# EAGLE library part VNC2-64L1B (library FTDI_By_element14_Batch_1)
Vinculum-II Embedded Dual USB Host Controller IC
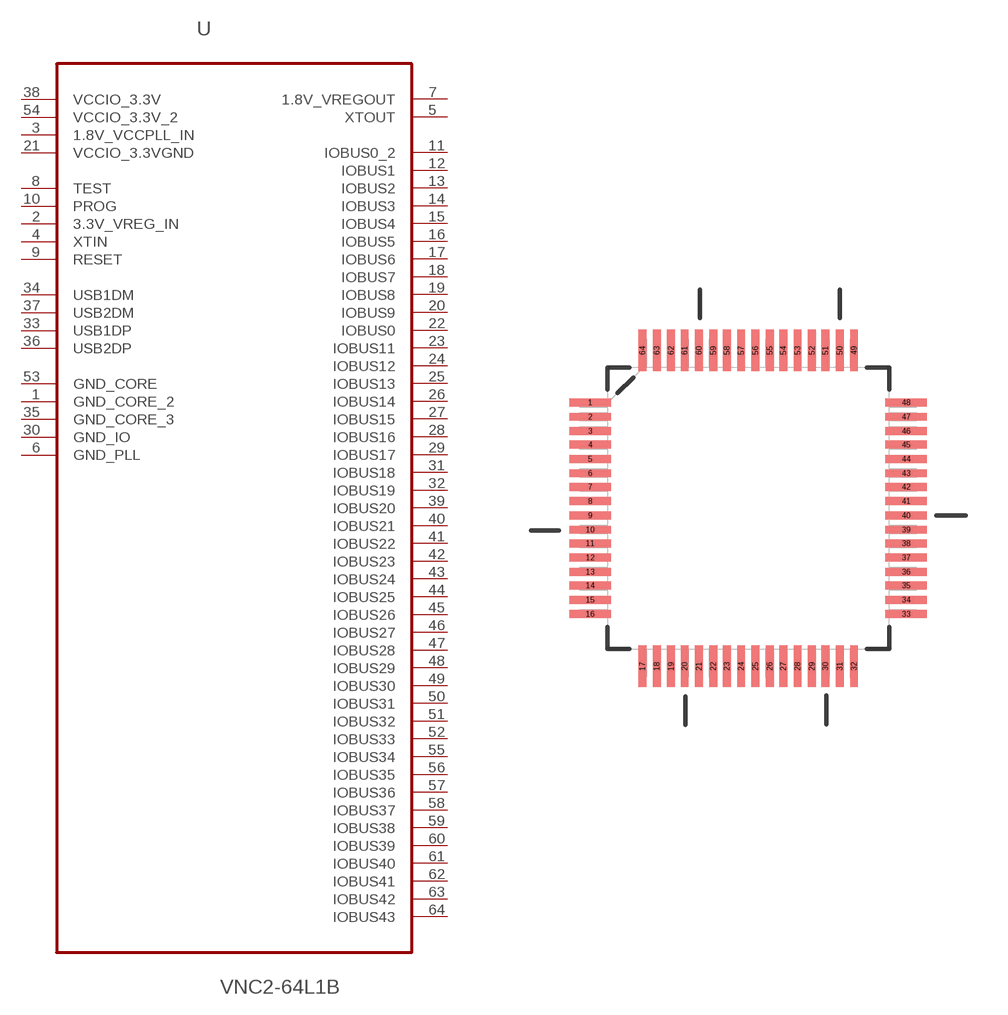
[diagram p4: symbol with the pads of QFP50P1200X1200X160-64N; footprint QFP50P1200X1200X160-64N]

Designator prefix U

## VNC2-64L1B (MPN: VNC2-64L1B; OC_FARNELL: 1863858; OC_NEWARK: 27T5922; PACKAGE: LQFP-64; SUPPLIER: FTDI)  [QFP50P1200X1200X160-64N]
1  GND_CORE_2  pas
2  3.3V_VREG_IN  in
3  1.8V_VCCPLL_IN  pwr
4  XTIN  pwr
5  XTOUT  out
6  GND_PLL  out
7  1.8V_VREGOUT  out
8  TEST  in
9  RESET  in
10  PROG  in
11  IOBUS0_2
12  IOBUS1
13  IOBUS2
14  IOBUS3
15  IOBUS4
16  IOBUS5
17  IOBUS6
18  IOBUS7
19  IOBUS8
20  IOBUS9
21  VCCIO_3.3VGND  pwr
22  IOBUS0
23  IOBUS11
24  IOBUS12
25  IOBUS13
26  IOBUS14
27  IOBUS15
28  IOBUS16
29  IOBUS17
30  GND_IO  pas
31  IOBUS18
32  IOBUS19
33  USB1DP
34  USB1DM
35  GND_CORE_3  out
36  USB2DP
37  USB2DM
38  VCCIO_3.3V  pwr
39  IOBUS20
40  IOBUS21
41  IOBUS22
42  IOBUS23
43  IOBUS24
44  IOBUS25
45  IOBUS26
46  IOBUS27
47  IOBUS28
48  IOBUS29
49  IOBUS30
50  IOBUS31
51  IOBUS32
52  IOBUS33
53  GND_CORE  pas
54  VCCIO_3.3V_2  pwr
55  IOBUS34
56  IOBUS35
57  IOBUS36
58  IOBUS37
59  IOBUS38
60  IOBUS39
61  IOBUS40
62  IOBUS41
63  IOBUS42
64  IOBUS43

## Footprint QFP50P1200X1200X160-64N (pad centres in mm)
smd 1.473 x 0.279: 1 -5.613,3.759; 2 -5.613,3.251; 3 -5.613,2.743; 4 -5.613,2.261; 5 -5.613,1.753; 6 -5.613,1.245; 7 -5.613,0.762; 8 -5.613,0.254; 9 -5.613,-0.254; 10 -5.613,-0.762; 11 -5.613,-1.245; 12 -5.613,-1.753; 13 -5.613,-2.261; 14 -5.613,-2.743; 15 -5.613,-3.251; 16 -5.613,-3.759; 33 5.613,-3.759; 34 5.613,-3.251; 35 5.613,-2.743; 36 5.613,-2.261; 37 5.613,-1.753; 38 5.613,-1.245; 39 5.613,-0.762; 40 5.613,-0.254; 41 5.613,0.254; 42 5.613,0.762; 43 5.613,1.245; 44 5.613,1.753; 45 5.613,2.261; 46 5.613,2.743; 47 5.613,3.251; 48 5.613,3.759
smd 0.279 x 1.473: 17 -3.759,-5.613; 18 -3.251,-5.613; 19 -2.743,-5.613; 20 -2.261,-5.613; 21 -1.753,-5.613; 22 -1.245,-5.613; 23 -0.762,-5.613; 24 -0.254,-5.613; 25 0.254,-5.613; 26 0.762,-5.613; 27 1.245,-5.613; 28 1.753,-5.613; 29 2.261,-5.613; 30 2.743,-5.613; 31 3.251,-5.613; 32 3.759,-5.613; 49 3.759,5.613; 50 3.251,5.613; 51 2.743,5.613; 52 2.261,5.613; 53 1.753,5.613; 54 1.245,5.613; 55 0.762,5.613; 56 0.254,5.613; 57 -0.254,5.613; 58 -0.762,5.613; 59 -1.245,5.613; 60 -1.753,5.613; 61 -2.261,5.613; 62 -2.743,5.613; 63 -3.251,5.613; 64 -3.759,5.613